# EAGLE library part AT90USB1286 (library untitled)
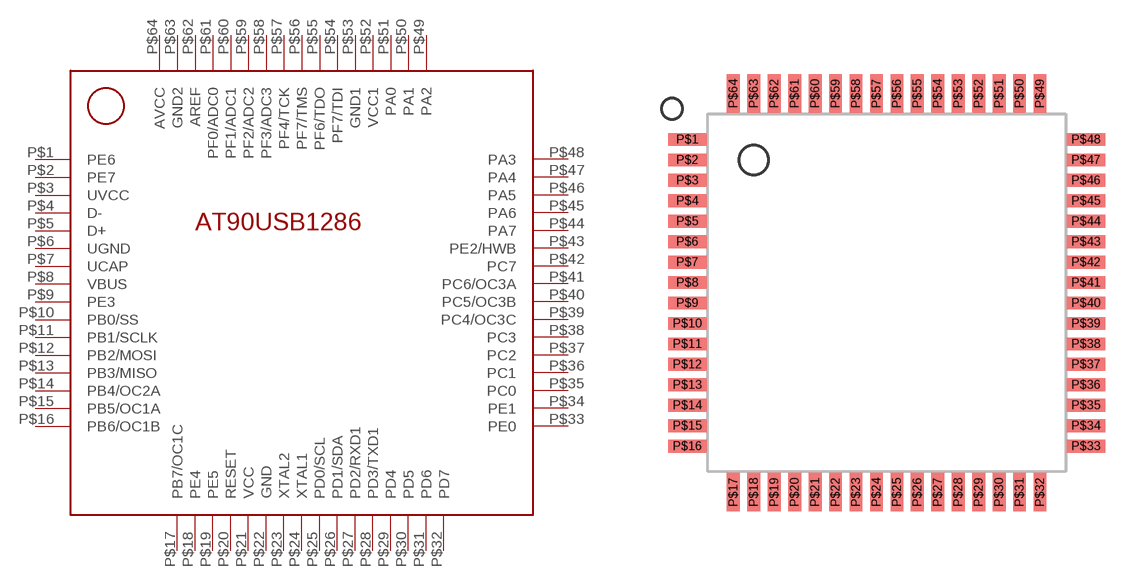
[diagram p24: symbol with the pads of TQFP64; footprint TQFP64]

Designator prefix -

## AT90USB1286  [TQFP64]
P$1  PE6
P$2  PE7
P$3  UVCC
P$4  D-
P$5  D+
P$6  UGND
P$7  UCAP
P$8  VBUS
P$9  PE3
P$10  PB0/SS
P$11  PB1/SCLK
P$12  PB2/MOSI
P$13  PB3/MISO
P$14  PB4/OC2A
P$15  PB5/OC1A
P$16  PB6/OC1B
P$17  PB7/OC1C
P$18  PE4
P$19  PE5
P$20  RESET
P$21  VCC
P$22  GND
P$23  XTAL2
P$24  XTAL1
P$25  PD0/SCL
P$26  PD1/SDA
P$27  PD2/RXD1
P$28  PD3/TXD1
P$29  PD4
P$30  PD5
P$31  PD6
P$32  PD7
P$33  PE0
P$34  PE1
P$35  PC0
P$36  PC1
P$37  PC2
P$38  PC3
P$39  PC4/OC3C
P$40  PC5/OC3B
P$41  PC6/OC3A
P$42  PC7
P$43  PE2/HWB
P$44  PA7
P$45  PA6
P$46  PA5
P$47  PA4
P$48  PA3
P$49  PA2
P$50  PA1
P$51  PA0
P$52  VCC1
P$53  GND1
P$54  PF7/TDI
P$55  PF6/TDO
P$56  PF7/TMS
P$57  PF4/TCK
P$58  PF3/ADC3
P$59  PF2/ADC2
P$60  PF1/ADC1
P$61  PF0/ADC0
P$62  AREF
P$63  GND2
P$64  AVCC

## Footprint TQFP64 (pad centres in mm)
smd 1.5 x 0.5: P$1 -7.8,6; P$2 -7.8,5.2; P$3 -7.8,4.4; P$4 -7.8,3.6; P$5 -7.8,2.8; P$6 -7.8,2; P$7 -7.8,1.2; P$8 -7.8,0.4; P$9 -7.8,-0.4; P$10 -7.8,-1.2; P$11 -7.8,-2; P$12 -7.8,-2.8; P$13 -7.8,-3.6; P$14 -7.8,-4.4; P$15 -7.8,-5.2; P$16 -7.8,-6; P$33 7.8,-6; P$34 7.8,-5.2; P$35 7.8,-4.4; P$36 7.8,-3.6; P$37 7.8,-2.8; P$38 7.8,-2; P$39 7.8,-1.2; P$40 7.8,-0.4; P$41 7.8,0.4; P$42 7.8,1.2; P$43 7.8,2; P$44 7.8,2.8; P$45 7.8,3.6; P$46 7.8,4.4; P$47 7.8,5.2; P$48 7.8,6
smd 0.5 x 1.5: P$17 -6,-7.8; P$18 -5.2,-7.8; P$19 -4.4,-7.8; P$20 -3.6,-7.8; P$21 -2.8,-7.8; P$22 -2,-7.8; P$23 -1.2,-7.8; P$24 -0.4,-7.8; P$25 0.4,-7.8; P$26 1.2,-7.8; P$27 2,-7.8; P$28 2.8,-7.8; P$29 3.6,-7.8; P$30 4.4,-7.8; P$31 5.2,-7.8; P$32 6,-7.8; P$49 6,7.8; P$50 5.2,7.8; P$51 4.4,7.8; P$52 3.6,7.8; P$53 2.8,7.8; P$54 2,7.8; P$55 1.2,7.8; P$56 0.4,7.8; P$57 -0.4,7.8; P$58 -1.2,7.8; P$59 -2,7.8; P$60 -2.8,7.8; P$61 -3.6,7.8; P$62 -4.4,7.8; P$63 -5.2,7.8; P$64 -6,7.8